# Altium footprint library HTST-110-01-L-DV.PcbLib: 1 footprints
Each footprint in its own frame and in the unit in brackets; x right, y up, seen from the top. Pads: shape width x height; smd on the part's side, far side on the other; paste and mask are expansions set on the pad; w line width, h text height; cw(c..) or ccw(c..) is an arc to the next point about the centre after c.
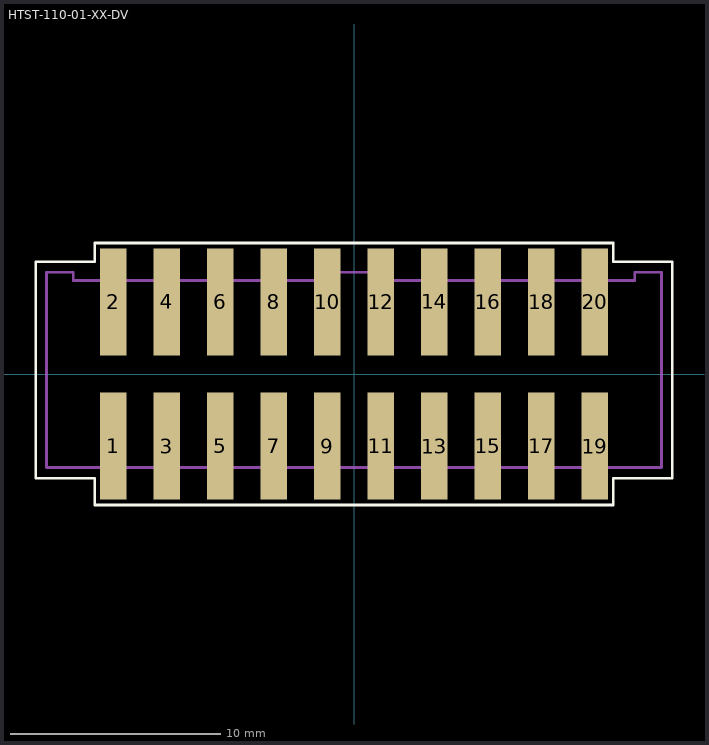
[diagram p0: the footprint, top view; thin cyan lines are the x and y axes]

## HTST-110-01-XX-DV [mil]
pads (20):
  rect 50x200 smd: 1(-450,-135) 2(-450,135) 3(-350,-135) 4(-350,135) 5(-250,-135) 6(-250,135) 7(-150,-135) 8(-150,135) 9(-50,-135) 10(-50,135) 11(50,-135) 12(50,135) 13(150,-135) 14(150,135) 15(250,-135) 16(250,135) 17(350,-135) 18(350,135) 19(450,-135) 20(450,135)
Top Overlay:
  lines w5: -595,-195 -595,210 -485,210 -485,245 -400,245 -300,245 -150,245 -50,245 485,245 485,210 595,210 595,-195 485,-195 485,-245 -485,-245 -485,-195 -595,-195
Mechanical 13:
  lines w5: -575,-175 -575,190 -525,190 -525,175 -50,175 -50,190 50,190 50,175 525,175 525,190 575,190 575,-175 -575,-175